# Altium schematic symbol library MQ-Series.SchLib: 2 symbols
Pins are listed as number, name and electrical type; pins without a type are passive.

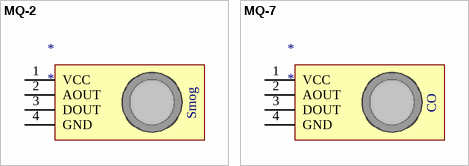
[diagram p0: symbols MQ-2 to MQ-7]

## MQ-2
designator *
pins: 1 VCC, 2 AOUT, 3 DOUT, 4 GND
text: Smog

## MQ-7
designator *
pins: 1 VCC, 2 AOUT, 3 DOUT, 4 GND
text: CO